# Altium footprint library CONN_TERM_PWR_2P_2.54MM_TH.PcbLib: 1 footprints
Each footprint in its own frame and in the unit in brackets; x right, y up, seen from the top. Pads: shape width x height; smd on the part's side, far side on the other; paste and mask are expansions set on the pad; w line width, h text height; cw(c..) or ccw(c..) is an arc to the next point about the centre after c.
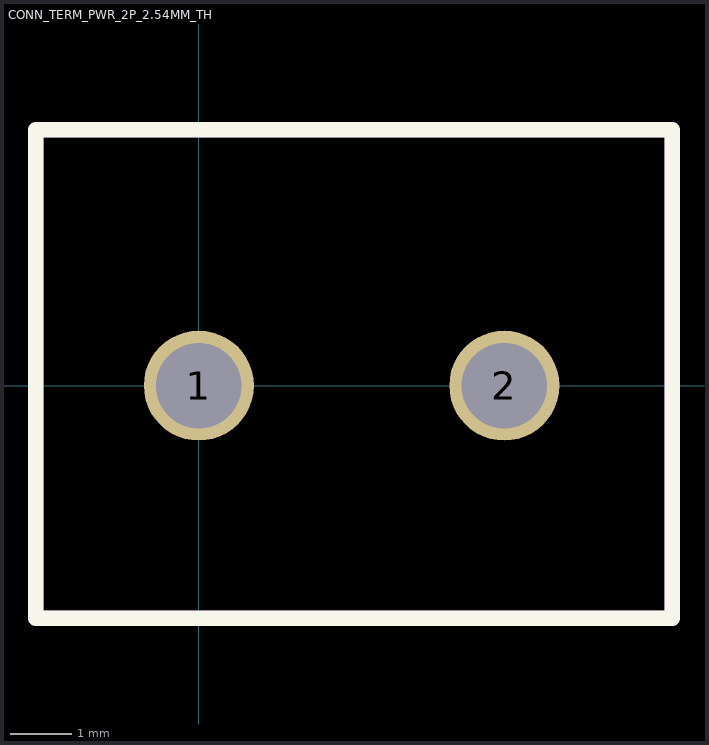
[diagram p0: the footprint, top view; thin cyan lines are the x and y axes]

## CONN_TERM_PWR_2P_2.54MM_TH [mm]
pads (2):
  round 1.8 hole 1.4: 1(0,0) 2(5,0)
Top Overlay:
  lines w0.254: -2.667,-3.81 7.747,-3.81 7.747,4.191 -2.667,4.191 -2.667,-3.81
Mechanical 1:
  lines w0.254: -2.667,-3.81 7.747,-3.81 7.747,4.191 -2.667,4.191 -2.667,-3.81
  text ".designator" at 1.094,0 h0.5
3D body "CONN_TERM_PWR_2P_2.54MM_TH.step": height 11.5, standoff -3.6, extent -2.46,-3.556 7.54,3.944